# EAGLE library part RTL8188CUS-MOD (library SeCloud)
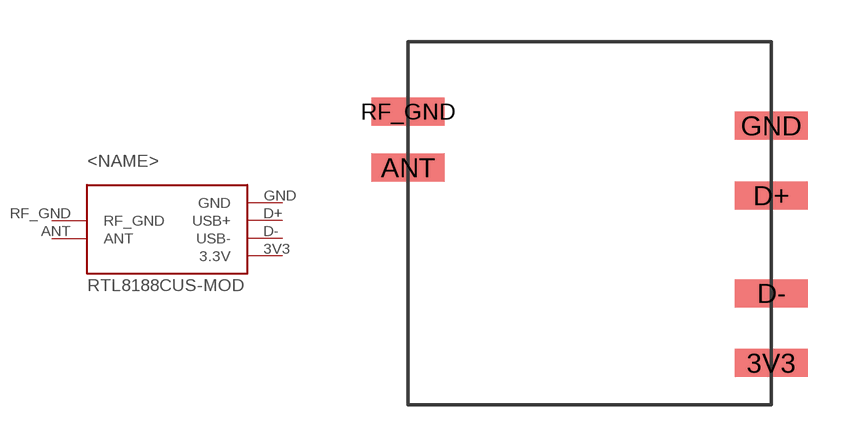
[diagram p0: symbol with the pads of RTL8188CUS-MOD; footprint RTL8188CUS-MOD]

Designator prefix -

## RTL8188CUS-MOD  [RTL8188CUS-MOD]
3V3  3.3V
ANT  ANT
D+  USB+
D-  USB-
GND  GND
RF_GND  RF_GND

## Footprint RTL8188CUS-MOD (pad centres in mm)
smd 2.6 x 1: 3V3 7,-5.5; ANT -6,1.5; D+ 7,0.5; D- 7,-3; GND 7,3; RF_GND -6,3.5